# Altium footprint library Discrete_Passive.PcbLib: 313 footprints (part 13 of 20)
Each footprint in its own frame and in the unit in brackets; x right, y up, seen from the top. Pads: shape width x height; smd on the part's side, far side on the other; paste and mask are expansions set on the pad; w line width, h text height; cw(c..) or ccw(c..) is an arc to the next point about the centre after c.
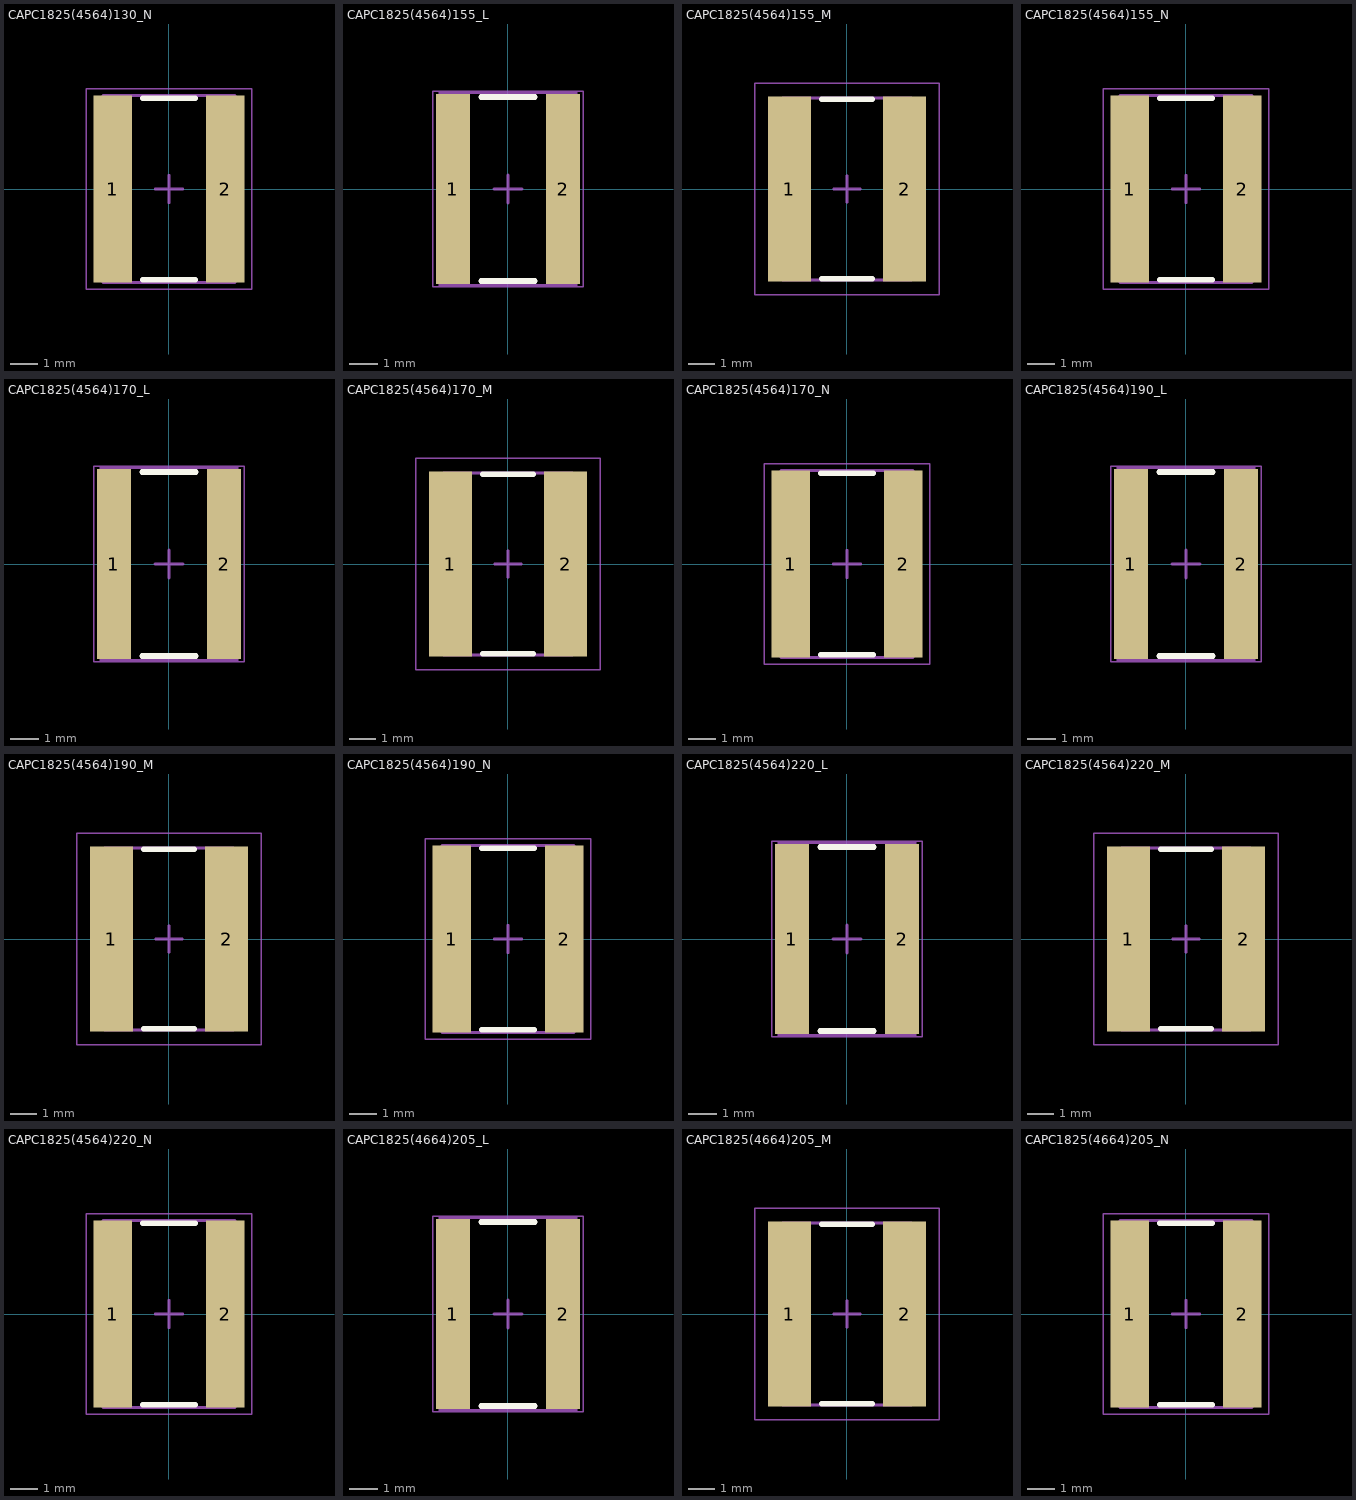
[diagram p12: the footprints below, top view; thin cyan lines are the x and y axes]

## CAPC1825(4564)130_N [mm] "Chip Capacitor, Body 4.5x6.4mm, Height 1.3mm, IPC Medium Density"
height 1.3
pads (2):
  rect 1.4x6.8 smd: 1(-2.05,0) 2(2.05,0)
Top Overlay:
  lines w0.2: -0.95,-3.3 0.95,-3.3 ; -0.95,3.3 0.95,3.3
Mechanical 13:
  lines w0.1: -2.4,-3.4 2.4,-3.4 2.4,3.4 -2.4,3.4 -2.4,-3.4
Mechanical 15:
  lines w0.05: -3,-3.65 3,-3.65 3,3.65 -3,3.65 -3,-3.65
  lines w0.1: -0.5,0 0.5,0 ; 0,-0.5 0,0.5
3D body: height 1.3, standoff 0, extent 1.8,-3.4 2.4,3.4
3D body: height 1.3, standoff 0, extent -2.4,-3.4 -1.8,3.4
3D body: height 1.3, standoff 0, extent -1.8,-3.4 1.8,3.4

## CAPC1825(4564)155_L [mm] "Chip Capacitor, Body 4.5x6.4mm, Height 1.55mm, IPC High Density"
height 1.55
pads (2):
  rect 1.2x6.7 smd: 1(-1.95,0) 2(1.95,0)
Top Overlay:
  lines w0.2: -0.95,-3.25 0.95,-3.25 ; -0.95,3.25 0.95,3.25
Mechanical 13:
  lines w0.1: -2.4,-3.4 2.4,-3.4 2.4,3.4 -2.4,3.4 -2.4,-3.4
Mechanical 15:
  lines w0.05: -2.65,-3.45 2.65,-3.45 2.65,3.45 -2.65,3.45 -2.65,-3.45
  lines w0.1: -0.5,0 0.5,0 ; 0,-0.5 0,0.5
3D body: height 1.55, standoff 0, extent 1.8,-3.4 2.4,3.4
3D body: height 1.55, standoff 0, extent -2.4,-3.4 -1.8,3.4
3D body: height 1.55, standoff 0, extent -1.8,-3.4 1.8,3.4

## CAPC1825(4564)155_M [mm] "Chip Capacitor, Body 4.5x6.4mm, Height 1.55mm, IPC Low Density"
height 1.55
pads (2):
  rect 1.6x6.9 smd: 1(-2.15,0) 2(2.15,0)
Top Overlay:
  lines w0.2: -0.95,-3.35 0.95,-3.35 ; -0.95,3.35 0.95,3.35
Mechanical 13:
  lines w0.1: -2.4,-3.4 2.4,-3.4 2.4,3.4 -2.4,3.4 -2.4,-3.4
Mechanical 15:
  lines w0.05: -3.45,-3.95 3.45,-3.95 3.45,3.95 -3.45,3.95 -3.45,-3.95
  lines w0.1: -0.5,0 0.5,0 ; 0,-0.5 0,0.5
3D body: height 1.55, standoff 0, extent 1.8,-3.4 2.4,3.4
3D body: height 1.55, standoff 0, extent -2.4,-3.4 -1.8,3.4
3D body: height 1.55, standoff 0, extent -1.8,-3.4 1.8,3.4

## CAPC1825(4564)155_N [mm] "Chip Capacitor, Body 4.5x6.4mm, Height 1.55mm, IPC Medium Density"
height 1.55
pads (2):
  rect 1.4x6.8 smd: 1(-2.05,0) 2(2.05,0)
Top Overlay:
  lines w0.2: -0.95,-3.3 0.95,-3.3 ; -0.95,3.3 0.95,3.3
Mechanical 13:
  lines w0.1: -2.4,-3.4 2.4,-3.4 2.4,3.4 -2.4,3.4 -2.4,-3.4
Mechanical 15:
  lines w0.05: -3,-3.65 3,-3.65 3,3.65 -3,3.65 -3,-3.65
  lines w0.1: -0.5,0 0.5,0 ; 0,-0.5 0,0.5
3D body: height 1.55, standoff 0, extent 1.8,-3.4 2.4,3.4
3D body: height 1.55, standoff 0, extent -2.4,-3.4 -1.8,3.4
3D body: height 1.55, standoff 0, extent -1.8,-3.4 1.8,3.4

## CAPC1825(4564)170_L [mm] "Chip Capacitor, Body 4.5x6.4mm, Height 1.7mm, IPC High Density"
height 1.7
pads (2):
  rect 1.2x6.7 smd: 1(-1.95,0) 2(1.95,0)
Top Overlay:
  lines w0.2: -0.95,-3.25 0.95,-3.25 ; -0.95,3.25 0.95,3.25
Mechanical 13:
  lines w0.1: -2.4,-3.4 2.4,-3.4 2.4,3.4 -2.4,3.4 -2.4,-3.4
Mechanical 15:
  lines w0.05: -2.65,-3.45 2.65,-3.45 2.65,3.45 -2.65,3.45 -2.65,-3.45
  lines w0.1: -0.5,0 0.5,0 ; 0,-0.5 0,0.5
3D body: height 1.7, standoff 0, extent 1.8,-3.4 2.4,3.4
3D body: height 1.7, standoff 0, extent -2.4,-3.4 -1.8,3.4
3D body: height 1.7, standoff 0, extent -1.8,-3.4 1.8,3.4

## CAPC1825(4564)170_M [mm] "Chip Capacitor, Body 4.5x6.4mm, Height 1.7mm, IPC Low Density"
height 1.7
pads (2):
  rect 1.6x6.9 smd: 1(-2.15,0) 2(2.15,0)
Top Overlay:
  lines w0.2: -0.95,-3.35 0.95,-3.35 ; -0.95,3.35 0.95,3.35
Mechanical 13:
  lines w0.1: -2.4,-3.4 2.4,-3.4 2.4,3.4 -2.4,3.4 -2.4,-3.4
Mechanical 15:
  lines w0.05: -3.45,-3.95 3.45,-3.95 3.45,3.95 -3.45,3.95 -3.45,-3.95
  lines w0.1: -0.5,0 0.5,0 ; 0,-0.5 0,0.5
3D body: height 1.7, standoff 0, extent 1.8,-3.4 2.4,3.4
3D body: height 1.7, standoff 0, extent -2.4,-3.4 -1.8,3.4
3D body: height 1.7, standoff 0, extent -1.8,-3.4 1.8,3.4

## CAPC1825(4564)170_N [mm] "Chip Capacitor, Body 4.5x6.4mm, Height 1.7mm, IPC Medium Density"
height 1.7
pads (2):
  rect 1.4x6.8 smd: 1(-2.05,0) 2(2.05,0)
Top Overlay:
  lines w0.2: -0.95,-3.3 0.95,-3.3 ; -0.95,3.3 0.95,3.3
Mechanical 13:
  lines w0.1: -2.4,-3.4 2.4,-3.4 2.4,3.4 -2.4,3.4 -2.4,-3.4
Mechanical 15:
  lines w0.05: -3,-3.65 3,-3.65 3,3.65 -3,3.65 -3,-3.65
  lines w0.1: -0.5,0 0.5,0 ; 0,-0.5 0,0.5
3D body: height 1.7, standoff 0, extent 1.8,-3.4 2.4,3.4
3D body: height 1.7, standoff 0, extent -2.4,-3.4 -1.8,3.4
3D body: height 1.7, standoff 0, extent -1.8,-3.4 1.8,3.4

## CAPC1825(4564)190_L [mm] "Chip Capacitor, Body 4.5x6.4mm, Height 1.9mm, IPC High Density"
height 1.9
pads (2):
  rect 1.2x6.7 smd: 1(-1.95,0) 2(1.95,0)
Top Overlay:
  lines w0.2: -0.95,-3.25 0.95,-3.25 ; -0.95,3.25 0.95,3.25
Mechanical 13:
  lines w0.1: -2.4,-3.4 2.4,-3.4 2.4,3.4 -2.4,3.4 -2.4,-3.4
Mechanical 15:
  lines w0.05: -2.65,-3.45 2.65,-3.45 2.65,3.45 -2.65,3.45 -2.65,-3.45
  lines w0.1: -0.5,0 0.5,0 ; 0,-0.5 0,0.5
3D body: height 1.9, standoff 0, extent 1.8,-3.4 2.4,3.4
3D body: height 1.9, standoff 0, extent -2.4,-3.4 -1.8,3.4
3D body: height 1.9, standoff 0, extent -1.8,-3.4 1.8,3.4

## CAPC1825(4564)190_M [mm] "Chip Capacitor, Body 4.5x6.4mm, Height 1.9mm, IPC Low Density"
height 1.9
pads (2):
  rect 1.6x6.9 smd: 1(-2.15,0) 2(2.15,0)
Top Overlay:
  lines w0.2: -0.95,-3.35 0.95,-3.35 ; -0.95,3.35 0.95,3.35
Mechanical 13:
  lines w0.1: -2.4,-3.4 2.4,-3.4 2.4,3.4 -2.4,3.4 -2.4,-3.4
Mechanical 15:
  lines w0.05: -3.45,-3.95 3.45,-3.95 3.45,3.95 -3.45,3.95 -3.45,-3.95
  lines w0.1: -0.5,0 0.5,0 ; 0,-0.5 0,0.5
3D body: height 1.9, standoff 0, extent 1.8,-3.4 2.4,3.4
3D body: height 1.9, standoff 0, extent -2.4,-3.4 -1.8,3.4
3D body: height 1.9, standoff 0, extent -1.8,-3.4 1.8,3.4

## CAPC1825(4564)190_N [mm] "Chip Capacitor, Body 4.5x6.4mm, Height 1.9mm, IPC Medium Density"
height 1.9
pads (2):
  rect 1.4x6.8 smd: 1(-2.05,0) 2(2.05,0)
Top Overlay:
  lines w0.2: -0.95,-3.3 0.95,-3.3 ; -0.95,3.3 0.95,3.3
Mechanical 13:
  lines w0.1: -2.4,-3.4 2.4,-3.4 2.4,3.4 -2.4,3.4 -2.4,-3.4
Mechanical 15:
  lines w0.05: -3,-3.65 3,-3.65 3,3.65 -3,3.65 -3,-3.65
  lines w0.1: -0.5,0 0.5,0 ; 0,-0.5 0,0.5
3D body: height 1.9, standoff 0, extent 1.8,-3.4 2.4,3.4
3D body: height 1.9, standoff 0, extent -2.4,-3.4 -1.8,3.4
3D body: height 1.9, standoff 0, extent -1.8,-3.4 1.8,3.4

## CAPC1825(4564)220_L [mm] "Chip Capacitor, Body 4.5x6.4mm, Height 2.2mm, IPC High Density"
height 2.2
pads (2):
  rect 1.2x6.7 smd: 1(-1.95,0) 2(1.95,0)
Top Overlay:
  lines w0.2: -0.95,-3.25 0.95,-3.25 ; -0.95,3.25 0.95,3.25
Mechanical 13:
  lines w0.1: -2.4,-3.4 2.4,-3.4 2.4,3.4 -2.4,3.4 -2.4,-3.4
Mechanical 15:
  lines w0.05: -2.65,-3.45 2.65,-3.45 2.65,3.45 -2.65,3.45 -2.65,-3.45
  lines w0.1: -0.5,0 0.5,0 ; 0,-0.5 0,0.5
3D body: height 2.2, standoff 0, extent 1.8,-3.4 2.4,3.4
3D body: height 2.2, standoff 0, extent -2.4,-3.4 -1.8,3.4
3D body: height 2.2, standoff 0, extent -1.8,-3.4 1.8,3.4

## CAPC1825(4564)220_M [mm] "Chip Capacitor, Body 4.5x6.4mm, Height 2.2mm, IPC Low Density"
height 2.2
pads (2):
  rect 1.6x6.9 smd: 1(-2.15,0) 2(2.15,0)
Top Overlay:
  lines w0.2: -0.95,-3.35 0.95,-3.35 ; -0.95,3.35 0.95,3.35
Mechanical 13:
  lines w0.1: -2.4,-3.4 2.4,-3.4 2.4,3.4 -2.4,3.4 -2.4,-3.4
Mechanical 15:
  lines w0.05: -3.45,-3.95 3.45,-3.95 3.45,3.95 -3.45,3.95 -3.45,-3.95
  lines w0.1: -0.5,0 0.5,0 ; 0,-0.5 0,0.5
3D body: height 2.2, standoff 0, extent 1.8,-3.4 2.4,3.4
3D body: height 2.2, standoff 0, extent -2.4,-3.4 -1.8,3.4
3D body: height 2.2, standoff 0, extent -1.8,-3.4 1.8,3.4

## CAPC1825(4564)220_N [mm] "Chip Capacitor, Body 4.5x6.4mm, Height 2.2mm, IPC Medium Density"
height 2.2
pads (2):
  rect 1.4x6.8 smd: 1(-2.05,0) 2(2.05,0)
Top Overlay:
  lines w0.2: -0.95,-3.3 0.95,-3.3 ; -0.95,3.3 0.95,3.3
Mechanical 13:
  lines w0.1: -2.4,-3.4 2.4,-3.4 2.4,3.4 -2.4,3.4 -2.4,-3.4
Mechanical 15:
  lines w0.05: -3,-3.65 3,-3.65 3,3.65 -3,3.65 -3,-3.65
  lines w0.1: -0.5,0 0.5,0 ; 0,-0.5 0,0.5
3D body: height 2.2, standoff 0, extent 1.8,-3.4 2.4,3.4
3D body: height 2.2, standoff 0, extent -2.4,-3.4 -1.8,3.4
3D body: height 2.2, standoff 0, extent -1.8,-3.4 1.8,3.4

## CAPC1825(4664)205_L [mm] "Chip Capacitor, Body 4.5x6.4mm, Height 2.05mm, IPC High Density"
height 2.05
pads (2):
  rect 1.2x6.7 smd: 1(-1.95,0) 2(1.95,0)
Top Overlay:
  lines w0.2: -0.95,-3.25 0.95,-3.25 ; -0.95,3.25 0.95,3.25
Mechanical 13:
  lines w0.1: -2.4,-3.4 2.4,-3.4 2.4,3.4 -2.4,3.4 -2.4,-3.4
Mechanical 15:
  lines w0.05: -2.65,-3.45 2.65,-3.45 2.65,3.45 -2.65,3.45 -2.65,-3.45
  lines w0.1: -0.5,0 0.5,0 ; 0,-0.5 0,0.5
3D body: height 2.05, standoff 0, extent 1.8,-3.4 2.4,3.4
3D body: height 2.05, standoff 0, extent -2.4,-3.4 -1.8,3.4
3D body: height 2.05, standoff 0, extent -1.8,-3.4 1.8,3.4

## CAPC1825(4664)205_M [mm] "Chip Capacitor, Body 4.5x6.4mm, Height 2.05mm, IPC Low Density"
height 2.05
pads (2):
  rect 1.6x6.9 smd: 1(-2.15,0) 2(2.15,0)
Top Overlay:
  lines w0.2: -0.95,-3.35 0.95,-3.35 ; -0.95,3.35 0.95,3.35
Mechanical 13:
  lines w0.1: -2.4,-3.4 2.4,-3.4 2.4,3.4 -2.4,3.4 -2.4,-3.4
Mechanical 15:
  lines w0.05: -3.45,-3.95 3.45,-3.95 3.45,3.95 -3.45,3.95 -3.45,-3.95
  lines w0.1: -0.5,0 0.5,0 ; 0,-0.5 0,0.5
3D body: height 2.05, standoff 0, extent 1.8,-3.4 2.4,3.4
3D body: height 2.05, standoff 0, extent -2.4,-3.4 -1.8,3.4
3D body: height 2.05, standoff 0, extent -1.8,-3.4 1.8,3.4

## CAPC1825(4664)205_N [mm] "Chip Capacitor, Body 4.5x6.4mm, Height 2.05mm, IPC Medium Density"
height 2.05
pads (2):
  rect 1.4x6.8 smd: 1(-2.05,0) 2(2.05,0)
Top Overlay:
  lines w0.2: -0.95,-3.3 0.95,-3.3 ; -0.95,3.3 0.95,3.3
Mechanical 13:
  lines w0.1: -2.4,-3.4 2.4,-3.4 2.4,3.4 -2.4,3.4 -2.4,-3.4
Mechanical 15:
  lines w0.05: -3,-3.65 3,-3.65 3,3.65 -3,3.65 -3,-3.65
  lines w0.1: -0.5,0 0.5,0 ; 0,-0.5 0,0.5
3D body: height 2.05, standoff 0, extent 1.8,-3.4 2.4,3.4
3D body: height 2.05, standoff 0, extent -2.4,-3.4 -1.8,3.4
3D body: height 2.05, standoff 0, extent -1.8,-3.4 1.8,3.4